# Altium integrated library HARTING DIN 41612 Type E.IntLib: 3 symbols
Pins are listed as number, name and electrical type; pins without a type are passive.

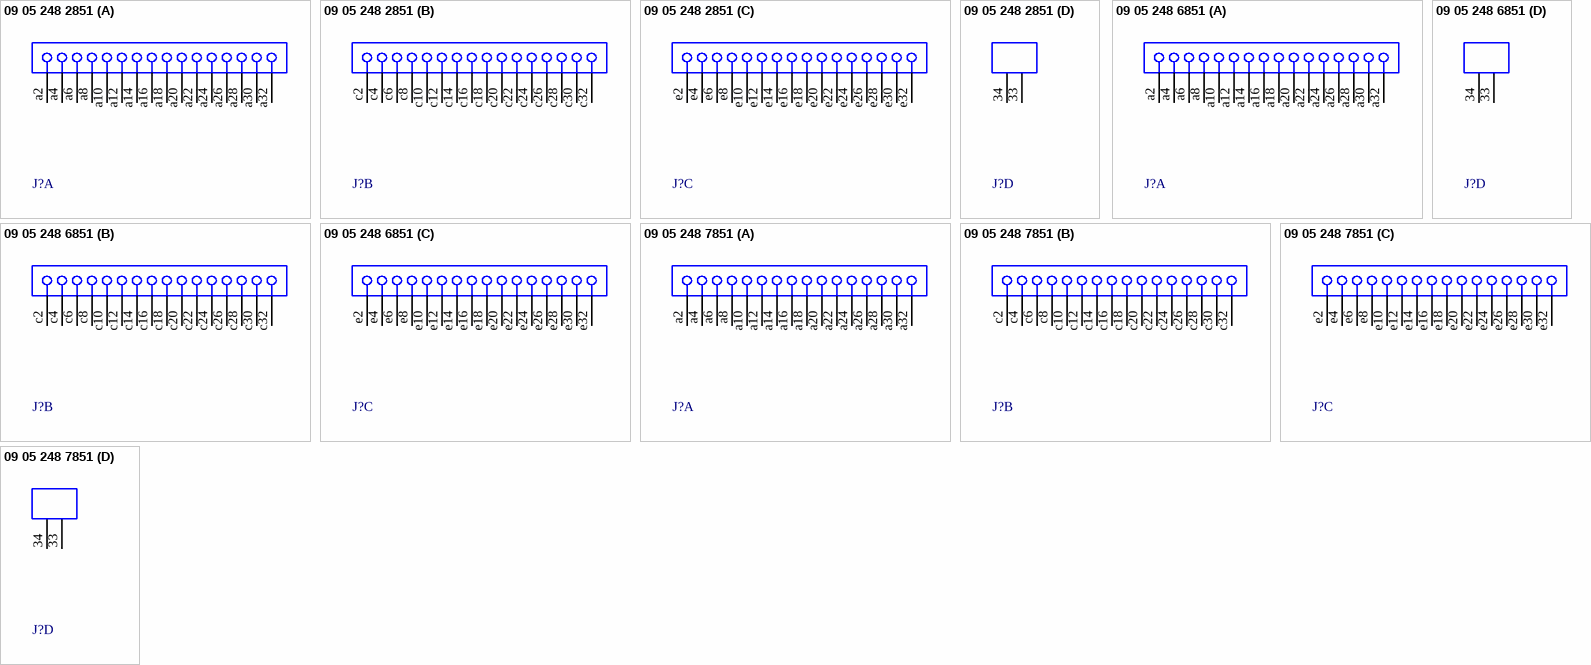
[diagram p0: symbols 09 05 248 2851 to 09 05 248 7851]

## 09 05 248 2851
designator J?
Eurocard DIN 41612, Type E, 48 Postion, Rows a+c+e, Performance level 1, Female, Lead 11.5 mm, Pitch 5.08 mm; DrillSize: Corresponds to nominal value.; Published: 6-Oct-2005; DatasheetDocument: 03-Jun-2003; PackageDocument: 03-Jun-2003; PackageReference: 0905248x851; Publisher: Altium Limited; ComponentLink1Description: Manufacturer Link; ComponentLink1URL: http://www.harting.com/
footprint 0905248x851 (Connector; DIN 41612, Type E, Thru-Hole; Rows a+c+e, 48 Position; Vertical)
signal-integrity model DIN 41612
part A pins: a2, a4, a6, a8, a10, a12, a14, a16, a18, a20, a22, a24, a26, a28, a30, a32
part B pins: c2, c4, c6, c8, c10, c12, c14, c16, c18, c20, c22, c24, c26, c28, c30, c32
part C pins: e2, e4, e6, e8, e10, e12, e14, e16, e18, e20, e22, e24, e26, e28, e30, e32
part D pins: 33 MH1 "Mounting Fixture", 34 MH2 "Mounting Fixture"

## 09 05 248 6851
designator J?
Eurocard DIN 41612, Type E, 48 Postion, Rows a+c+e, Performance level 2, Female, Lead 11.5 mm, Pitch 5.08 mm; DrillSize: Corresponds to nominal value.; Published: 6-Oct-2005; DatasheetDocument: 03-Jun-2003; PackageDocument: 03-Jun-2003; PackageReference: 0905248x851; Publisher: Altium Limited; ComponentLink1Description: Manufacturer Link; ComponentLink1URL: http://www.harting.com/
footprint 0905248x851 (Connector; DIN 41612, Type E, Thru-Hole; Rows a+c+e, 48 Position; Vertical)
signal-integrity model DIN 41612
part A pins: a2, a4, a6, a8, a10, a12, a14, a16, a18, a20, a22, a24, a26, a28, a30, a32
part B pins: c2, c4, c6, c8, c10, c12, c14, c16, c18, c20, c22, c24, c26, c28, c30, c32
part C pins: e2, e4, e6, e8, e10, e12, e14, e16, e18, e20, e22, e24, e26, e28, e30, e32
part D pins: 33 MH1 "Mounting Fixture", 34 MH2 "Mounting Fixture"

## 09 05 248 7851
designator J?
Eurocard DIN 41612, Type E, 48 Postion, Rows a+c+e, Performance level 3, Female, Lead 11.5 mm, Pitch 5.08 mm; DrillSize: Corresponds to nominal value.; Published: 6-Oct-2005; DatasheetDocument: 03-Jun-2003; PackageDocument: 03-Jun-2003; PackageReference: 0905248x851; Publisher: Altium Limited; ComponentLink1Description: Manufacturer Link; ComponentLink1URL: http://www.harting.com/
footprint 0905248x851 (Connector; DIN 41612, Type E, Thru-Hole; Rows a+c+e, 48 Position; Vertical)
signal-integrity model DIN 41612
part A pins: a2, a4, a6, a8, a10, a12, a14, a16, a18, a20, a22, a24, a26, a28, a30, a32
part B pins: c2, c4, c6, c8, c10, c12, c14, c16, c18, c20, c22, c24, c26, c28, c30, c32
part C pins: e2, e4, e6, e8, e10, e12, e14, e16, e18, e20, e22, e24, e26, e28, e30, e32
part D pins: 33 MH1 "Mounting Fixture", 34 MH2 "Mounting Fixture"